# Altium schematic symbol library MCU#csv.SchLib: 3 symbols
Pins are listed as number, name and electrical type; pins without a type are passive.

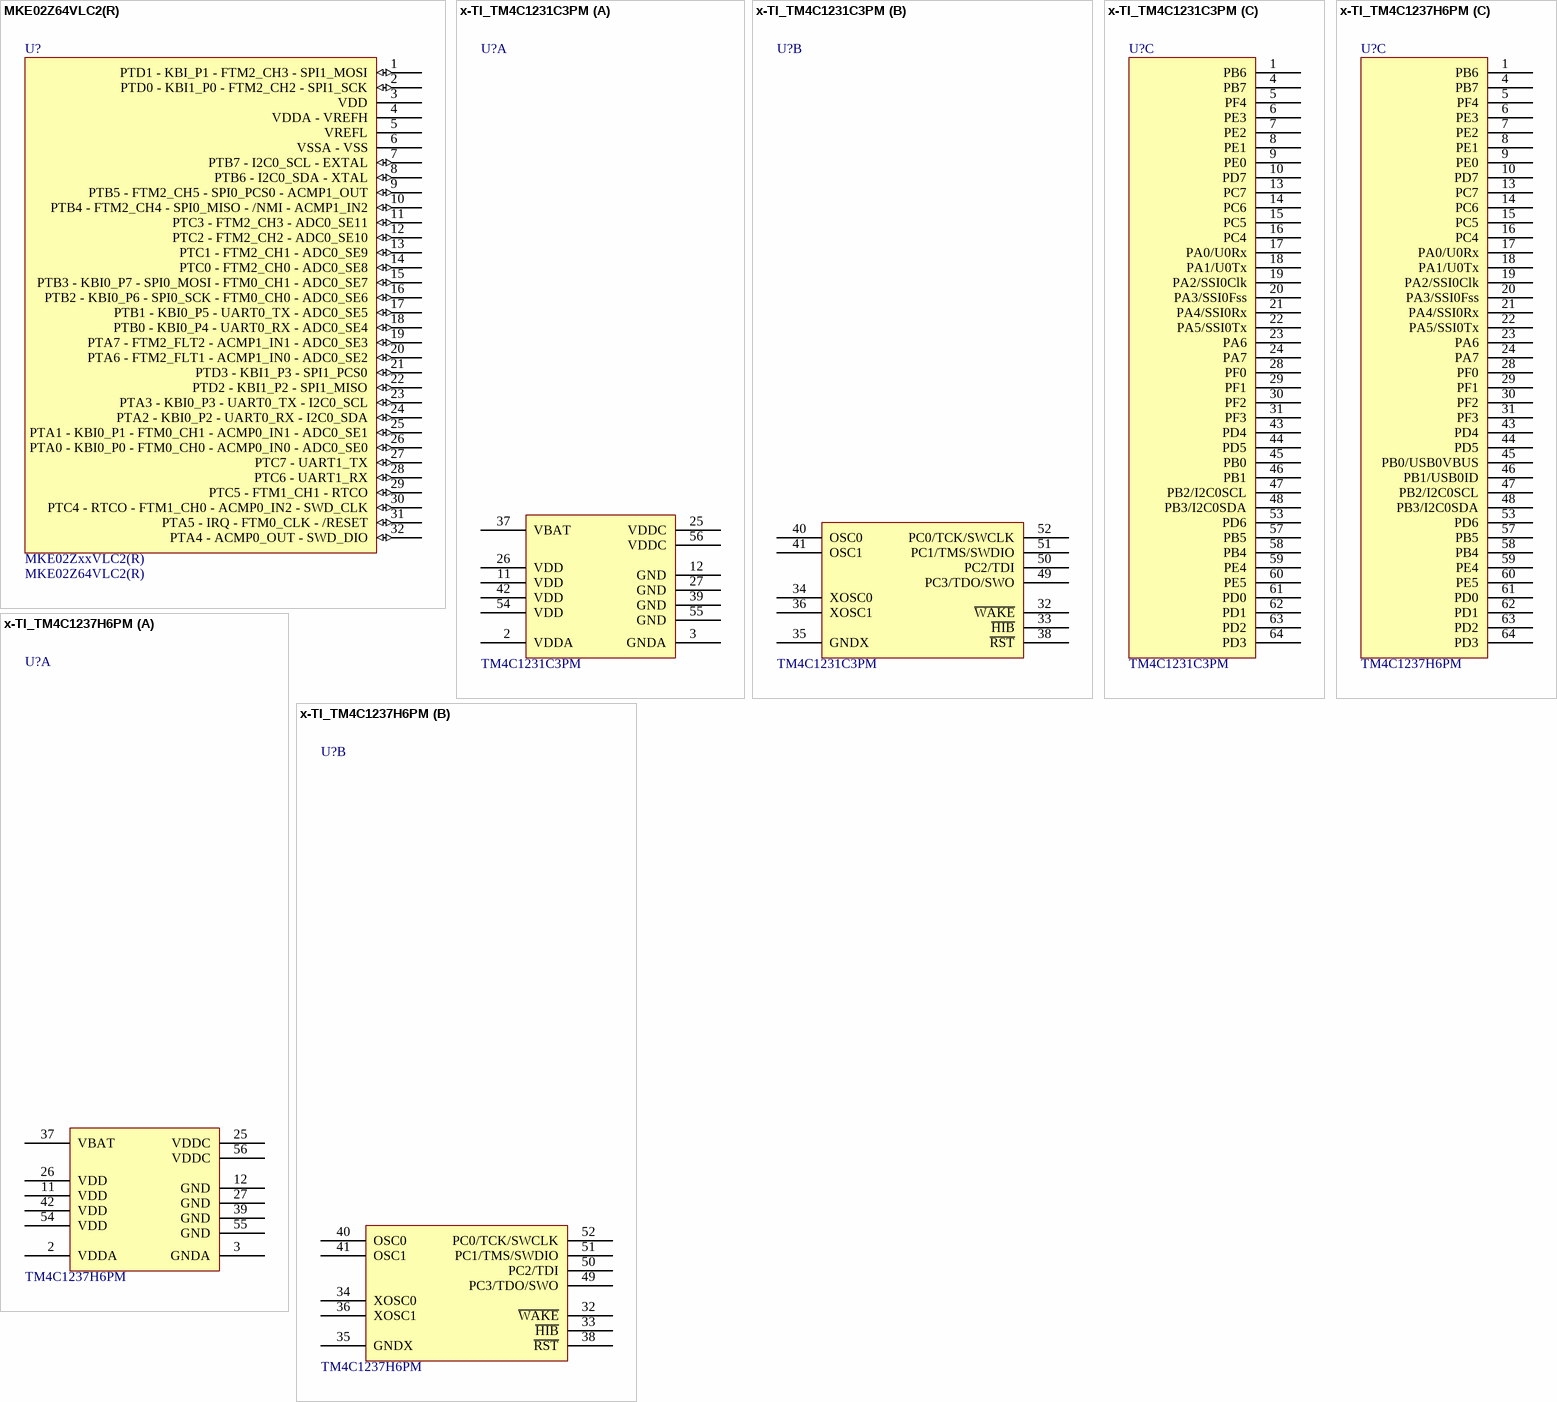
[diagram p0: symbols MKE02Z64VLC2(R) to x-TI_TM4C1237H6PM]

## MKE02Z64VLC2(R)
designator U?, comment MKE02ZxxVLC2(R)  Manufacturer Part Number: MKE02Z64VLC2(R)
Kinetis KE02 Cortex®-M0+ MCU 32 Pin LQFP; Manufacturer: Freescale; Name: MKE02Z64VLC2(R)
footprint JEDEC_MS-026BBA
pins: 1 PTD1 - KBI_P1 - FTM2_CH3 - SPI1_MOSI (io), 2 PTD0 - KBI1_P0 - FTM2_CH2 - SPI1_SCK (io), 3 VDD, 4 VDDA - VREFH, 5 VREFL, 6 VSSA - VSS, 7 PTB7 - I2C0_SCL - EXTAL (io), 8 PTB6 - I2C0_SDA - XTAL (io), 9 PTB5 - FTM2_CH5 - SPI0_PCS0 - ACMP1_OUT (io), 10 PTB4 - FTM2_CH4 - SPI0_MISO - /NMI - ACMP1_IN2 (io), 11 PTC3 - FTM2_CH3 - ADC0_SE11 (io), 12 PTC2 - FTM2_CH2 - ADC0_SE10 (io), 13 PTC1 - FTM2_CH1 - ADC0_SE9 (io), 14 PTC0 - FTM2_CH0 - ADC0_SE8 (io), 15 PTB3 - KBI0_P7 - SPI0_MOSI - FTM0_CH1 - ADC0_SE7 (io), 16 PTB2 - KBI0_P6 - SPI0_SCK - FTM0_CH0 - ADC0_SE6 (io), 17 PTB1 - KBI0_P5 - UART0_TX - ADC0_SE5 (io), 18 PTB0 - KBI0_P4 - UART0_RX - ADC0_SE4 (io), 19 PTA7 - FTM2_FLT2 - ACMP1_IN1 - ADC0_SE3 (io), 20 PTA6 - FTM2_FLT1 - ACMP1_IN0 - ADC0_SE2 (io), 21 PTD3 - KBI1_P3 - SPI1_PCS0 (io), 22 PTD2 - KBI1_P2 - SPI1_MISO (io), 23 PTA3 - KBI0_P3 - UART0_TX - I2C0_SCL (io), 24 PTA2 - KBI0_P2 - UART0_RX - I2C0_SDA (io), 25 PTA1 - KBI0_P1 - FTM0_CH1 - ACMP0_IN1 - ADC0_SE1 (io), 26 PTA0 - KBI0_P0 - FTM0_CH0 - ACMP0_IN0 - ADC0_SE0 (io), 27 PTC7 - UART1_TX (io), 28 PTC6 - UART1_RX (io), 29 PTC5 - FTM1_CH1 - RTCO (io), 30 PTC4 - RTCO - FTM1_CH0 - ACMP0_IN2 - SWD_CLK (io), 31 PTA5 - IRQ - FTM0_CLK - /RESET (io), 32 PTA4 - ACMP0_OUT - SWD_DIO (io)

## x-TI_TM4C1231C3PM
designator U?, comment Manufacturer Part Number: TM4C1231C3PM  (hidden comment: TM4C1231xxPM)
MCU Tiva C-Series 64 Pin LQFP; Manufacturer: Texas Instruments; Name: x-TI_TM4C1231C3PM
footprint JEDEC_MS-026ACD(D)
part A pins: 2 VDDA, 3 GNDA, 11 VDD, 12 GND, 25 VDDC, 26 VDD, 27 GND, 37 VBAT, 39 GND, 42 VDD, 54 VDD, 55 GND, 56 VDDC
part B pins: 32 ~{WAKE}, 33 ~{HIB}, 34 XOSC0, 35 GNDX, 36 XOSC1, 38 ~{RST}, 40 OSC0, 41 OSC1, 49 PC3/TDO/SWO, 50 PC2/TDI, 51 PC1/TMS/SWDIO, 52 PC0/TCK/SWCLK
part C pins: 1 PB6, 4 PB7, 5 PF4, 6 PE3, 7 PE2, 8 PE1, 9 PE0, 10 PD7, 13 PC7, 14 PC6, 15 PC5, 16 PC4, 17 PA0/U0Rx, 18 PA1/U0Tx, 19 PA2/SSI0Clk, 20 PA3/SSI0Fss, 21 PA4/SSI0Rx, 22 PA5/SSI0Tx, 23 PA6, 24 PA7, 28 PF0, 29 PF1, 30 PF2, 31 PF3, 43 PD4, 44 PD5, 45 PB0, 46 PB1, 47 PB2/I2C0SCL, 48 PB3/I2C0SDA, 53 PD6, 57 PB5, 58 PB4, 59 PE4, 60 PE5, 61 PD0, 62 PD1, 63 PD2, 64 PD3

## x-TI_TM4C1237H6PM
designator U?, comment Manufacturer Part Number: TM4C1237H6PM  (hidden comment: TM4C1237xxPM)
MCU Tiva C-Series 64 Pin LQFP; Manufacturer: Texas Instruments; Name: x-TI_TM4C1237H6PM
footprint JEDEC_MS-026ACD(D)
part A pins: 2 VDDA, 3 GNDA, 11 VDD, 12 GND, 25 VDDC, 26 VDD, 27 GND, 37 VBAT, 39 GND, 42 VDD, 54 VDD, 55 GND, 56 VDDC
part B pins: 32 ~{WAKE}, 33 ~{HIB}, 34 XOSC0, 35 GNDX, 36 XOSC1, 38 ~{RST}, 40 OSC0, 41 OSC1, 49 PC3/TDO/SWO, 50 PC2/TDI, 51 PC1/TMS/SWDIO, 52 PC0/TCK/SWCLK
part C pins: 1 PB6, 4 PB7, 5 PF4, 6 PE3, 7 PE2, 8 PE1, 9 PE0, 10 PD7, 13 PC7, 14 PC6, 15 PC5, 16 PC4, 17 PA0/U0Rx, 18 PA1/U0Tx, 19 PA2/SSI0Clk, 20 PA3/SSI0Fss, 21 PA4/SSI0Rx, 22 PA5/SSI0Tx, 23 PA6, 24 PA7, 28 PF0, 29 PF1, 30 PF2, 31 PF3, 43 PD4, 44 PD5, 45 PB0/USB0VBUS, 46 PB1/USB0ID, 47 PB2/I2C0SCL, 48 PB3/I2C0SDA, 53 PD6, 57 PB5, 58 PB4, 59 PE4, 60 PE5, 61 PD0, 62 PD1, 63 PD2, 64 PD3